# EAGLE library part LM3401)LED_DRIVER (library Taylor)
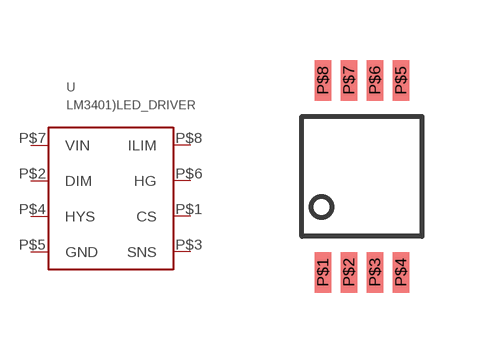
[diagram p25: symbol with the pads of MSOP-8; footprint MSOP-8]

Designator prefix -

## LM3401)LED_DRIVER  [MSOP-8]
P$1  CS
P$2  DIM
P$3  SNS
P$4  HYS
P$5  GND  pwr
P$6  HG
P$7  VIN  pwr
P$8  ILIM

## Footprint MSOP-8 (pad centres in mm)
smd 0.406 x 1.016: P$1 -0.975,-2.4; P$2 -0.325,-2.4; P$3 0.325,-2.4; P$4 0.975,-2.4; P$5 0.975,2.4; P$6 0.325,2.4; P$7 -0.325,2.4; P$8 -0.975,2.4